# EAGLE library part ESP8266_ESP-07S (library esp8266modules)
WiFi Module Source: Datasheet <http://www.exp-tech.de/pdf/products/ESP-07S/ESP-07S_User_Manual.pdf>
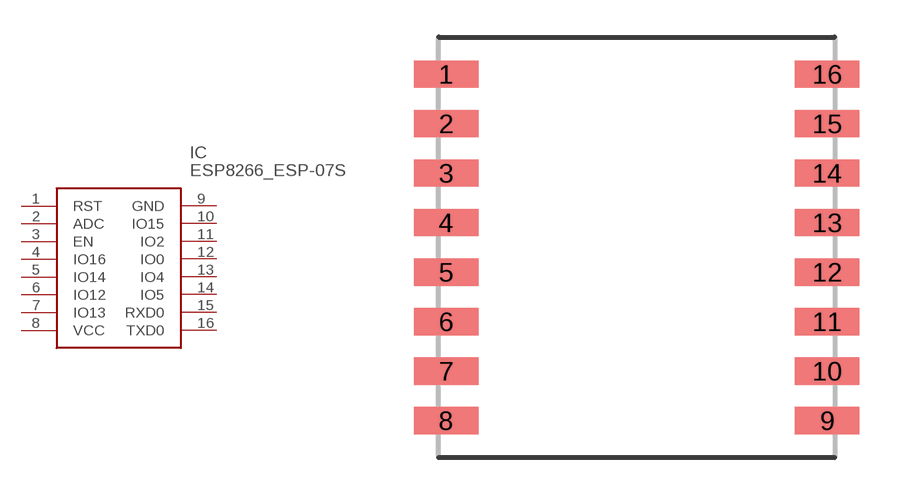
[diagram p20: symbol with the pads of ESP-07S; footprint ESP-07S]

Designator prefix IC

## ESP8266_ESP-07S (Arrow_Part_Number: esp8266 esp-07s; Description: WiFi Module; Height: mm; Manufacturer_Name: ai-thinker; Manufacturer_Part_Number: esp8266 esp-07s)  [ESP-07S]
1  RST
2  ADC
3  EN
4  IO16
5  IO14
6  IO12
7  IO13
8  VCC
9  GND
10  IO15
11  IO2
12  IO0
13  IO4
14  IO5
15  RXD0
16  TXD0

## Footprint ESP-07S (pad centres in mm)
esp-07s
smd 2.6 x 1.1: 1 -7.7,7; 2 -7.7,5; 3 -7.7,3; 4 -7.7,1; 5 -7.7,-1; 6 -7.7,-3; 7 -7.7,-5; 8 -7.7,-7; 9 7.7,-7; 10 7.7,-5; 11 7.7,-3; 12 7.7,-1; 13 7.7,1; 14 7.7,3; 15 7.7,5; 16 7.7,7